# Altium schematic symbol library 20455-A20E.Schlib: 1 symbol
Pins are listed as number, name and electrical type; pins without a type are passive.

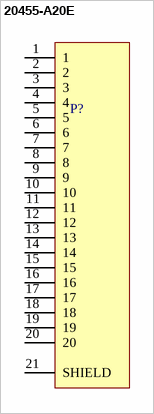
[diagram p0: symbol 20455-A20E]

## 20455-A20E
designator P?
high-data-rate transfer (20 Gbps/lane), Mechanical locking bar, 0.5 mm pitch, Horizontal mating type micro-coaxial connector
pins: 1, 2, 3, 4, 5, 6, 7, 8, 9, 10, 11, 12, 13, 14, 15, 16, 17, 18, 19, 20, 21 SHIELD